# Altium schematic symbol library ATTINY25-20SSN.Schlib: 1 symbol
Pins are listed as number, name and electrical type; pins without a type are passive.

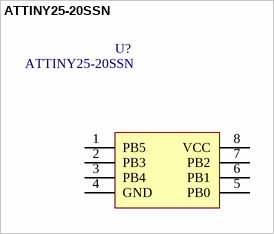
[diagram p0: symbol ATTINY25-20SSN]

## ATTINY25-20SSN
designator U?
AVR AVR® ATtiny Microcontroller IC 8-Bit 20MHz 2KB (1K x 16) FLASH 8-SOIC
pins: 1 PB5, 2 PB3, 3 PB4, 4 GND, 5 PB0, 6 PB1, 7 PB2, 8 VCC